# Altium footprint library SIGMA_2D.PcbLib: 200 footprints (part 3 of 13)
Each footprint in its own frame and in the unit in brackets; x right, y up, seen from the top. Pads: shape width x height; smd on the part's side, far side on the other; paste and mask are expansions set on the pad; w line width, h text height; cw(c..) or ccw(c..) is an arc to the next point about the centre after c.
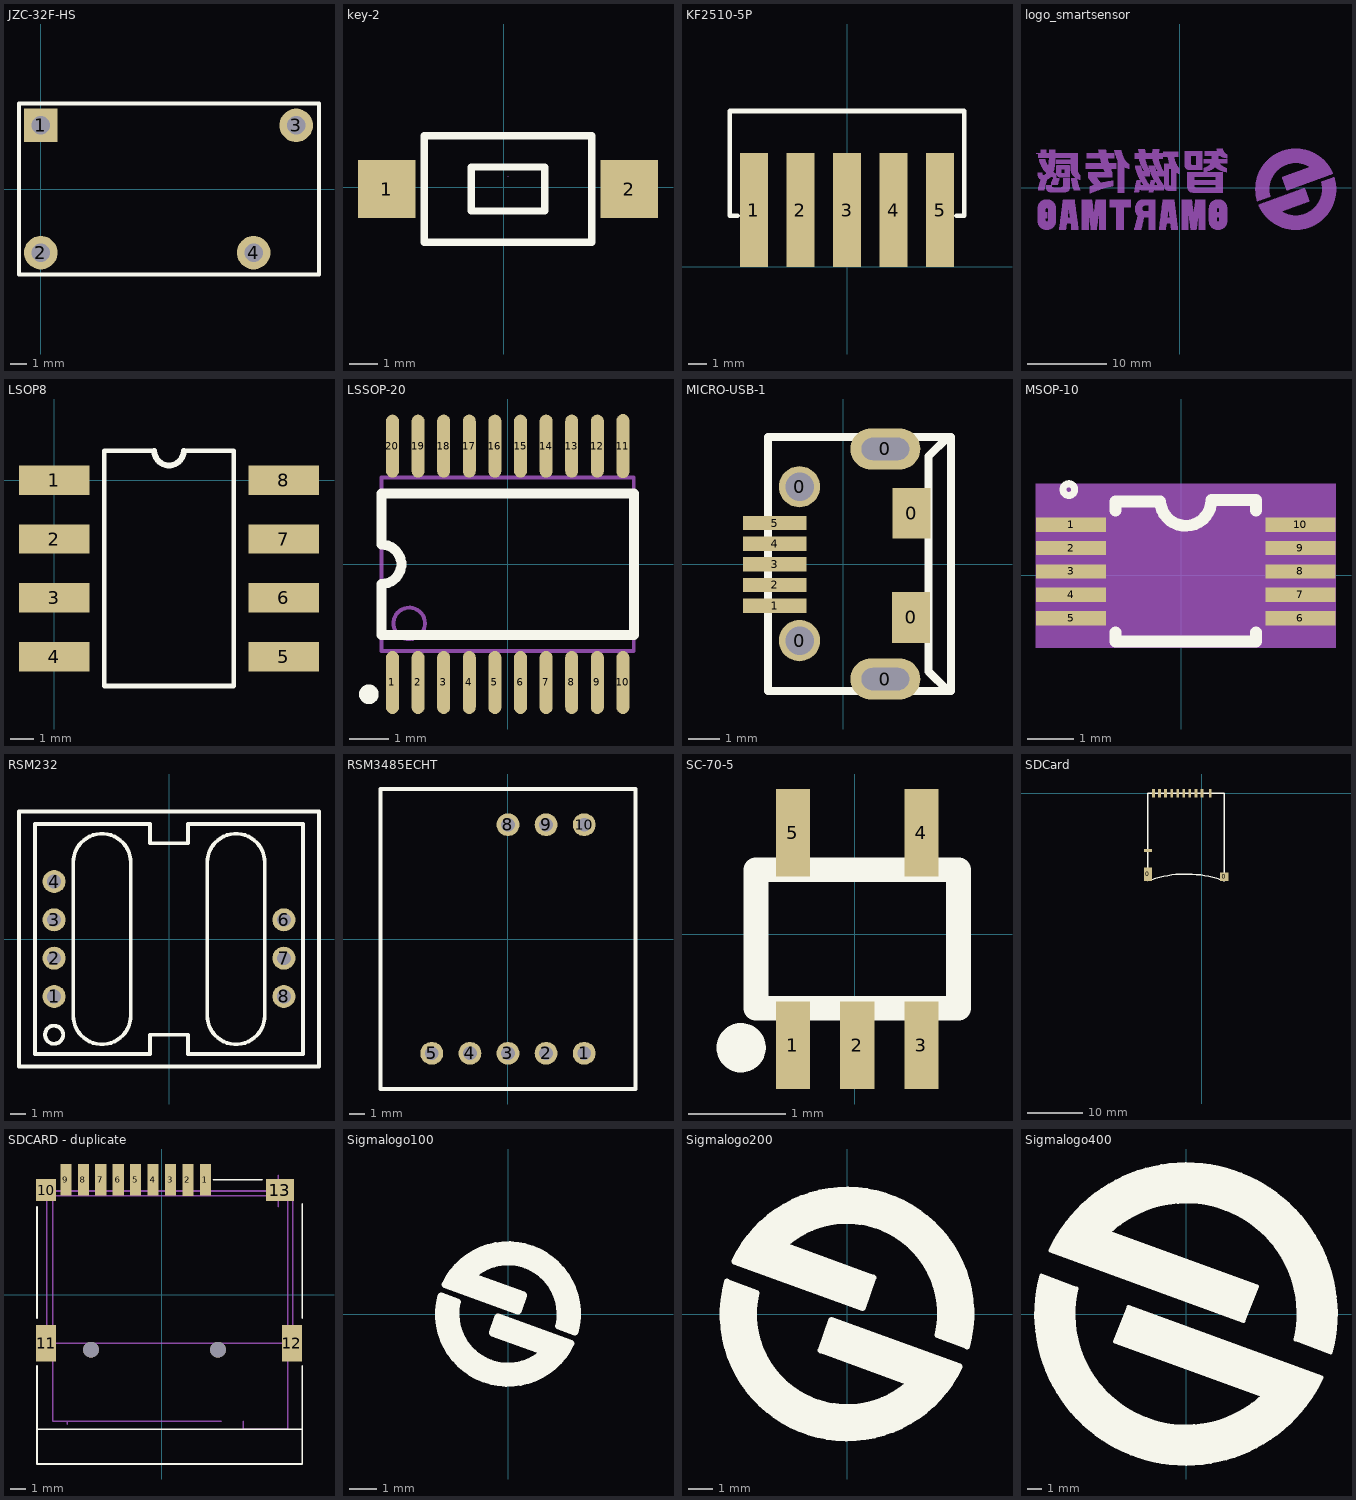
[diagram p2: the footprints below, top view; thin cyan lines are the x and y axes]

## JZC-32F-HS [mm]
pads (4):
  rect 2x2 hole 1.1: 1(0,3.8)
  round 2 hole 1.1: 2(0,-3.8) 3(15.24,3.8) 4(12.7,-3.8)
Top Overlay:
  lines w0.254: -1.3,-5.1 16.6,-5.1 16.6,5.1 -1.3,5.1 -1.3,-5.1

## key-2 [mm]
pads (2):
  rect 2x2 smd: 1(-4.055,-0.055) 2(4.345,-0.055)
Top Overlay:
  lines w0.254: -2.755,-1.905 -2.755,1.795 3.045,1.795 3.045,-1.905 -2.755,-1.905 ; -1.125,-0.817 1.415,-0.817 1.415,0.707 -1.125,0.707 -1.125,-0.817
Mechanical 15:
  lines w0.003: 0.145,0.385 0.146,0.385

## KF2510-5P [mm] "平弯针座"
height 11.7
pads (5):
  rect 1.524x6.2 smd: 1(-5.08,3.1) 2(-2.54,3.1) 3(0,3.1) 4(2.54,3.1) 5(5.08,3.1)
Top Overlay:
  lines w0.254: -5.975,2.8 -6.4,2.8 -6.4,8.5 6.4,8.5 6.4,2.8 5.975,2.8

## logo_smartsensor [mm]
Bottom Overlay:
  drawing of 5154 lines, arcs and shapes, not listed

## LSOP8 [mil]
pads (8):
  rect 120x50 smd: 1(0,0) 2(0,-100) 3(0,-200) 4(0,-300) 5(390,-300) 6(390,-200) 7(390,-100) 8(390,0)
Top Overlay:
  lines w8: 170,50 85,50 85,-350 305,-350 305,50 220,50
  lines w10: 170,50 ccw(c195,50) 220,50

## LSSOP-20 [mm]
pads (20):
  oval 0.33x1.6 smd: 1(-2.925,-3) 2(-2.275,-3) 3(-1.625,-3) 4(-0.975,-3) 5(-0.325,-3) 6(0.325,-3) 7(0.975,-3) 8(1.625,-3) 9(2.275,-3) 10(2.925,-3) 12(2.275,3) 13(1.625,3) 14(0.975,3) 15(0.325,3) 16(-0.325,3) 17(-0.975,3) 18(-1.625,3) 19(-2.275,3) 20(-2.925,3)
  oval 0.33x1.63 smd: 11(2.925,3)
Top Overlay:
  circle w0.25: c-3.525,-3.3 r0.125
  lines w0.254: -3.2,-1.8 -3.2,-0.5 ccw(c-3.2,0) -3.2,0.5 -3.2,1.8 3.2,1.8 3.2,-1.8 -3.2,-1.8
Mechanical 13:
  circle w0.1: c-2.5,-1.5 r0.4
  lines w0.1: -3.2,-2.2 -3.2,2.2 3.2,2.2 3.2,-2.2 -3.2,-2.2

## MICRO-USB-1 [mm]
pads (11):
  round 1.3 hole 0.9: 0(-1.371,-2.41) 0(-1.371,2.431)
  oval 2.2x1.3 hole 0.7 slot 1.5 at 0 deg: 0(1.329,-3.619) 0(1.329,3.619)
  rect 1.2x1.6 smd: 0(2.14,-1.683) 0(2.156,1.596)
  rect 2x0.45 smd: 1(-2.156,-1.31) 2(-2.156,-0.66) 3(-2.156,-0.01) 4(-2.156,0.64) 5(-2.156,1.29)
Top Overlay:
  lines w0.254: -2.361,4 -2.361,-4 3.379,-4 ; -2.351,4 3.389,4 ; 3.379,-3.97 3.279,-3.97 2.689,-3.38 2.689,3.39 3.279,3.98 3.399,3.98 ; 3.399,-4 3.399,4

## MSOP-10 [mm]
pads (10):
  rect 1.5x0.305 smd: 1(-2.349,1.078) 2(-2.349,0.577) 3(-2.349,0.078) 4(-2.349,-0.423) 5(-2.349,-0.922) 6(2.553,-0.922) 7(2.553,-0.423) 8(2.553,0.078) 9(2.553,0.577) 10(2.553,1.078)
Top Overlay:
  lines w0.15: -2.273,1.826 cw(c-2.398,1.828) -2.273,1.829
  lines w0.254: -1.398,-1.223 -1.398,-1.422 1.602,-1.422 1.602,-1.223 ; -1.398,1.378 -1.398,1.576 -0.444,1.576 ccw(c0.102,1.6) 0.648,1.602 1.602,1.602 1.602,1.378
Mechanical 4:
  region: -3.099,1.954 3.312,1.954 3.312,-1.549 -3.099,-1.549
Mechanical 5:
  region: -3.099,1.23 -1.599,1.23 -1.599,0.925 -3.099,0.925
  region: -3.099,0.73 -1.599,0.73 -1.599,0.425 -3.099,0.425
  region: -3.099,0.23 -1.599,0.23 -1.599,-0.075 -3.099,-0.075
  region: -3.099,-0.27 -1.599,-0.27 -1.599,-0.575 -3.099,-0.575
  region: -3.099,-0.77 -1.599,-0.77 -1.599,-1.075 -3.099,-1.075
  region: 1.803,-0.77 3.303,-0.77 3.303,-1.075 1.803,-1.075
  region: 1.803,-0.27 3.303,-0.27 3.303,-0.575 1.803,-0.575
  region: 1.803,0.23 3.303,0.23 3.303,-0.075 1.803,-0.075
  region: 1.803,0.73 3.303,0.73 3.303,0.425 1.803,0.425
  region: 1.803,1.23 3.303,1.23 3.303,0.925 1.803,0.925
Mechanical 15:
  lines w0.003: 0.081,0.704 0.132,0.755

## RSM232 [mil]
pads (7):
  round 60 hole 36: 1(-300,-150) 2(-300,-50) 3(-300,50) 4(-300,150) 6(300,50) 7(300,-50) 8(300,-150)
Top Overlay:
  circle w10: c-300,-250 r23.62
  lines w10: -391.73,-332.68 -391.73,332.68 391.73,332.68 391.73,-332.68 -391.73,-332.68 ; -350,-300 -350,300 -50,300 -50,250 50,250 50,300 350,300 350,-300 50,-300 50,-250 -50,-250 -50,-300 -350,-300 ; -250,-200 ccw(c-175,-200) -100,-200 -100,200 ccw(c-175,200) -250,200 -250,-200 ; 100,-200 ccw(c175,-200) 250,-200 250,200 ccw(c175,200) 100,200 100,-200

## RSM3485ECHT [mil]
pads (8):
  round 60 hole 36: 1(200,-300) 2(100,-300) 3(0,-300) 4(-100,-300) 5(-200,-300) 8(0,300) 9(100,300) 10(200,300)
Top Overlay:
  lines w10: -334.64,-393.7 -334.64,393.7 334.65,393.7 334.65,-393.7 -334.64,-393.7

## SC-70-5 [mil]
pads (5):
  rect 13.8x35.43 smd: 1(-25,-45) 2(1,-45) 3(27,-45) 4(27,41) 5(-25,41)
Top Overlay:
  circle w10: c-46,-46 r5
  lines w10: -40,-30 -40,26 42,26 42,-30 -40,-30

## SDCard [mm]
pads (13):
  rect 1.5x2.5 smd: 0(-9.8,-14.732)
  rect 0.5x1.5 smd: 0(1.5,0) 1(0,0) 2(-1.1,0) 3(-2.2,0) 4(-3.3,0) 5(-4.4,0) 6(-5.5,0) 7(-6.6,0) 8(-7.7,0) 9(-8.8,0)
  rect 1.5x1.5 smd: 0(4.05,-15.2)
  rect 1.5x0.5 smd: 10(-9.8,-10.414)
Top Overlay:
  lines w0.254: 4.05,-15.95 4.05,0 -9.8,0 -9.8,-15.95 cw(c-2.898,-34.215) 4.071,-15.975

## SDCARD - duplicate [mm] "tf-01A"
pads (15):
  rect 0.7x2 smd: 1(2.749,7.228) 2(1.649,7.226) 3(0.553,7.228) 4(-0.547,7.228) 5(-1.645,7.228) 6(-2.744,7.228) 7(-3.84,7.228) 8(-4.938,7.228) 9(-6.042,7.228)
  rect 1.27x1.397 smd: 10(-7.29,6.59)
  rect 1.27x2.286 smd: 11(-7.29,-3.062) 12(8.204,-3.062)
  rect 1.778x1.397 smd: 13(7.442,6.59)
  round 1 hole 1 unplated: ""(-4.458,-3.474) ""(3.541,-3.471)
Top Overlay:
  lines w0.102: -7.857,-4.474 -7.857,-8.474 ; -7.857,-1.474 -7.857,5.526 ; 3.243,7.226 6.342,7.227 ; 8.843,-4.474 8.843,-8.474 ; 8.843,-1.474 8.843,5.726 ; -7.857,-8.474 -7.857,-10.674 8.843,-10.674 8.843,-8.474 ; -7.857,-8.474 8.843,-8.474
Mechanical 15:
  lines w0.102: -6.857,-7.974 3.743,-7.974 ; -6.857,-7.974 -6.857,6.226 7.944,6.226 ; -5.957,-8.174 -5.957,-7.974 ; 5.143,-7.974 5.143,-8.474 7.943,-8.474 7.943,6.226 ; 7.343,5.526 7.343,6.526 7.343,7.526 ; -7.257,-3.074 -7.257,6.526 8.243,6.526 8.243,-3.074 -7.257,-3.074

## Sigmalogo100 [mm] "外圆100mil"
Top Overlay:
  region: 5.488,-4.191
  region: -5.488,4.191
  region: 2.302,-1.073 2.202,-1.288 1.927,-1.671 1.586,-1.998 1.19,-2.256 0.754,-2.437 0.292,-2.534 -0.181,-2.545 -0.647,-2.468 -1.091,-2.306 -1.497,-2.065 -1.852,-1.754 -2.144,-1.382 -2.362,-0.963 -2.499,-0.511 -2.551,-0.042 -2.515,0.429 -2.453,0.657 -1.851,0.444 -1.856,0.43 -1.891,0.23 -1.897,-0.175 -1.817,-0.572 -1.655,-0.943 -1.418,-1.272 -1.117,-1.543 -0.765,-1.744 -0.379,-1.867 0.024,-1.905 0.426,-1.857 0.809,-1.725 1.156,-1.514 1.31,-1.383 1.311,-1.38 -0.574,-0.694 -0.369,-0.101
  region: 5.488,-4.191
  region: -5.488,4.191
  region: -2.302,1.073 -2.202,1.288 -1.927,1.671 -1.586,1.998 -1.19,2.256 -0.754,2.437 -0.292,2.534 0.181,2.545 0.647,2.468 1.091,2.306 1.497,2.065 1.852,1.754 2.144,1.382 2.362,0.963 2.499,0.511 2.551,0.042 2.515,-0.429 2.453,-0.657 1.851,-0.444 1.856,-0.43 1.891,-0.23 1.897,0.175 1.817,0.572 1.655,0.943 1.418,1.272 1.117,1.543 0.765,1.744 0.379,1.867 -0.024,1.905 -0.426,1.857 -0.809,1.725 -1.156,1.514 -1.31,1.383 -1.311,1.38 0.574,0.694 0.369,0.101
  lines w0.254: -1.856,0.43 ccw(c0,0) 1.31,-1.383 ; -1.851,0.444 -2.453,0.657 ccw(c0,0) 2.302,-1.073 -0.369,-0.101 -0.574,-0.694 1.311,-1.38 ; -1.311,1.38 0.574,0.694 0.369,0.101 -2.302,1.073 cw(c0,0) 2.453,-0.657 1.851,-0.444 ; -1.31,1.383 cw(c0,0) 1.856,-0.43

## Sigmalogo200 [mm] "外圆200mil"
Top Overlay:
  region: 6.132,-3.174
  region: 4.604,-2.147 4.471,-2.432 4.137,-2.965 3.74,-3.452 3.286,-3.887 2.781,-4.263 2.235,-4.573 1.654,-4.814 1.047,-4.981 0.425,-5.072 -0.204,-5.086 -0.829,-5.022 -1.442,-4.881 -2.033,-4.666 -2.593,-4.38 -3.113,-4.027 -3.586,-3.612 -4.004,-3.142 -4.361,-2.625 -4.651,-2.067 -4.871,-1.477 -5.016,-0.866 -5.084,-0.24 -5.075,0.388 -4.988,1.011 -4.907,1.315 -3.712,0.86 -3.768,0.563 -3.81,-0.039 -3.756,-0.64 -3.608,-1.225 -3.369,-1.779 -3.046,-2.289 -2.646,-2.741 -2.18,-3.125 -1.659,-3.43 -1.097,-3.649 -0.507,-3.776 0.096,-3.809 0.696,-3.746 1.279,-3.589 1.829,-3.342 2.334,-3.011 2.565,-2.817 2.552,-2.803 -1.075,-1.482 -0.633,-0.241
  region: -4.604,2.147 -4.471,2.432 -4.137,2.965 -3.74,3.452 -3.286,3.887 -2.781,4.263 -2.235,4.573 -1.654,4.814 -1.047,4.981 -0.425,5.072 0.204,5.086 0.829,5.022 1.442,4.881 2.033,4.666 2.593,4.38 3.113,4.027 3.586,3.612 4.004,3.142 4.361,2.625 4.651,2.067 4.871,1.477 5.016,0.866 5.084,0.24 5.075,-0.388 4.988,-1.011 4.907,-1.315 3.712,-0.86 3.768,-0.563 3.81,0.039 3.756,0.64 3.608,1.225 3.369,1.779 3.046,2.289 2.646,2.741 2.18,3.125 1.659,3.43 1.097,3.649 0.507,3.776 -0.096,3.809 -0.696,3.746 -1.279,3.589 -1.829,3.342 -2.334,3.011 -2.565,2.817 -2.552,2.803 1.075,1.482 0.633,0.241
  region: -6.132,3.174
  lines w0.254: -2.565,2.817 cw(c0,0) 3.712,-0.86 4.907,-1.315 ccw(c0,0) -4.604,2.147 0.633,0.241 1.075,1.482 -2.552,2.803 ; 2.552,-2.803 -1.075,-1.482 -0.633,-0.241 4.604,-2.147 cw(c0,0) -4.907,1.315 -3.712,0.86 ccw(c0,0) 2.565,-2.817

## Sigmalogo400 [mm] "外圆400mil"
Top Overlay:
  region: -9.208,4.294 3.892,-0.474 4.826,1.883 -5.23,5.526 -5.238,5.534 -4.936,5.805 -4.291,6.297 -3.597,6.718 -2.862,7.062 -2.095,7.326 -1.305,7.507 -0.499,7.604 0.312,7.614 1.12,7.537 1.915,7.375 2.688,7.13 3.431,6.804 4.135,6.401 4.792,5.925 5.395,5.382 5.936,4.778 6.41,4.119 6.812,3.415 7.137,2.671 7.38,1.897 7.54,1.102 7.614,0.294 7.602,-0.517 7.504,-1.323 7.423,-1.72 9.814,-2.63 9.936,-2.174 10.094,-1.245 10.166,-0.305 10.151,0.638 10.048,1.575 9.859,2.498 9.586,3.4 9.23,4.273 8.794,5.109 8.284,5.902 7.702,6.643 7.053,7.328 6.345,7.949 5.581,8.503 4.77,8.983 3.918,9.386 3.032,9.708 2.12,9.948 1.19,10.101 0.25,10.168 -0.693,10.147 -1.629,10.04 -2.552,9.846 -3.453,9.567 -4.324,9.206 -5.157,8.766 -5.947,8.251 -6.685,7.665 -7.366,7.013 -7.984,6.301 -8.533,5.535 -9.009,4.721
  region: -4.826,-1.883 5.23,-5.526 5.238,-5.534 4.936,-5.805 4.291,-6.297 3.597,-6.718 2.862,-7.062 2.095,-7.326 1.305,-7.507 0.499,-7.604 -0.312,-7.614 -1.12,-7.537 -1.915,-7.375 -2.688,-7.13 -3.431,-6.804 -4.135,-6.401 -4.792,-5.925 -5.395,-5.382 -5.936,-4.778 -6.41,-4.119 -6.812,-3.415 -7.137,-2.671 -7.38,-1.897 -7.54,-1.102 -7.614,-0.294 -7.602,0.517 -7.504,1.323 -7.423,1.72 -9.814,2.63 -9.936,2.174 -10.094,1.245 -10.166,0.305 -10.151,-0.638 -10.048,-1.575 -9.859,-2.498 -9.586,-3.4 -9.23,-4.273 -8.794,-5.109 -8.284,-5.902 -7.702,-6.643 -7.053,-7.328 -6.345,-7.949 -5.581,-8.503 -4.77,-8.983 -3.918,-9.386 -3.032,-9.708 -2.12,-9.948 -1.19,-10.101 -0.25,-10.168 0.693,-10.147 1.629,-10.04 2.552,-9.846 3.453,-9.567 4.324,-9.206 5.157,-8.766 5.947,-8.251 6.685,-7.665 7.366,-7.013 7.984,-6.301 8.533,-5.535 9.009,-4.721 9.208,-4.294 -3.892,0.474
  region: -6.132,3.174
  lines w0.254: -5.238,5.534 cw(c0,0) 7.423,-1.72 9.814,-2.63 ccw(c0,0) -9.208,4.294 3.892,-0.474 4.826,1.883 -5.23,5.526 ; 5.23,-5.526 -4.826,-1.883 -3.892,0.474 9.208,-4.294 cw(c0,0) -9.814,2.63 -7.423,1.72 ccw(c0,0) 5.238,-5.534